# EAGLE library part LM22676 (library Schaltregler - LM22676)
Name des Bauteiles: -->LM22676 Daten:PSOP-8 LM22676MR-ADJ, VIN to GND 43V Artikelnummer:#049032 Datenblatt:www.alldatasheet.com __________________________________________ generated by Eagle Description Tool am : 06.06.2014 15:30:40 erstellt von: wl
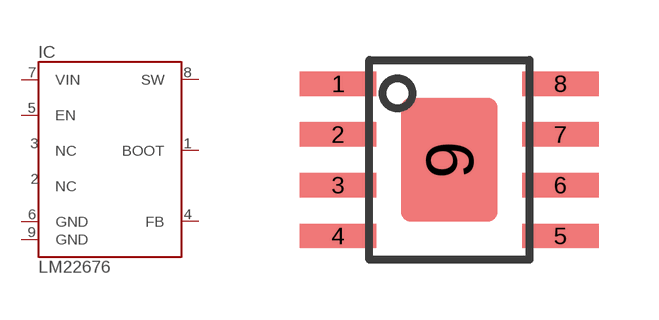
[diagram p0: symbol with the pads of PSOP8; footprint PSOP8]

Designator prefix IC

## LM22676MR-ADJ/NOPB  [PSOP8]
1  BOOT
2  NC
3  NC
4  FB
5  EN
6  GND
7  VIN
8  SW
9  GND

## Footprint PSOP8 (pad centres in mm)
smd 1.91 x 0.61: 1 -2.78,1.905; 2 -2.78,0.635; 3 -2.78,-0.635; 4 -2.78,-1.905; 5 2.78,-1.905; 6 2.78,-0.635; 7 2.78,0.635; 8 2.78,1.905
smd 2.41 x 3.1: 9 0,0